# EAGLE library part MCP651 (library Semiconductors > Integrated Circuits - ICs > Amplifier ICs > Operational Amplifiers - Op Amps)
The Microchip Technology Inc. MCP651/1S/2/3/4/5/9 family of high bandwidth and high slew rate operational amplifiers features low offset. At power-up, these op amps are self-calibrated using mCal. Some package options also provide a Calibration/Chip Select pin (CAL/CS) that supports a Low-Power mode of operation, with offset calibration at the time normal operation is re-started. These amplifiers are optimized for high speed, low noise and distortion, single-supply operation with rail-to-rail output and an input that includes the negative rail.
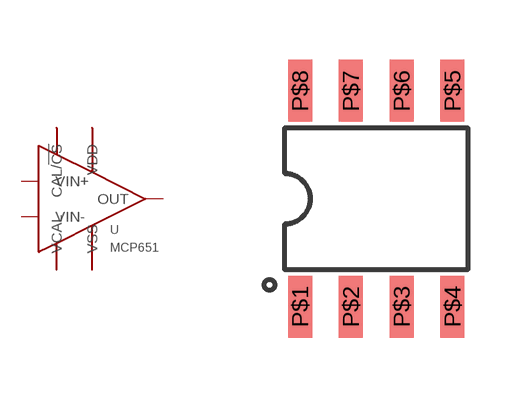
[diagram p2: symbol with the pads of SOIC_8; footprint SOIC_8]

Designator prefix U

## MCP651  [SOIC_8]
P$2  VIN-
P$3  VIN+
P$4  VSS
P$5  VCAL
P$6  OUT
P$7  VDD
P$8  CAL/!CS!

## Footprint SOIC_8 (pad centres in mm)
8-Lead Plastic Small Outline (SN) - Narrow, 3.90 mm Body [SOIC]
smd 0.6 x 1.55: P$1 -1.905,-2.7; P$2 -0.635,-2.7; P$3 0.635,-2.7; P$4 1.905,-2.7; P$5 1.905,2.7; P$6 0.635,2.7; P$7 -0.635,2.7; P$8 -1.905,2.7